# Altium schematic symbol library Reference_Current.SchLib: 12 symbols
Pins are listed as number, name and electrical type; pins without a type are passive.

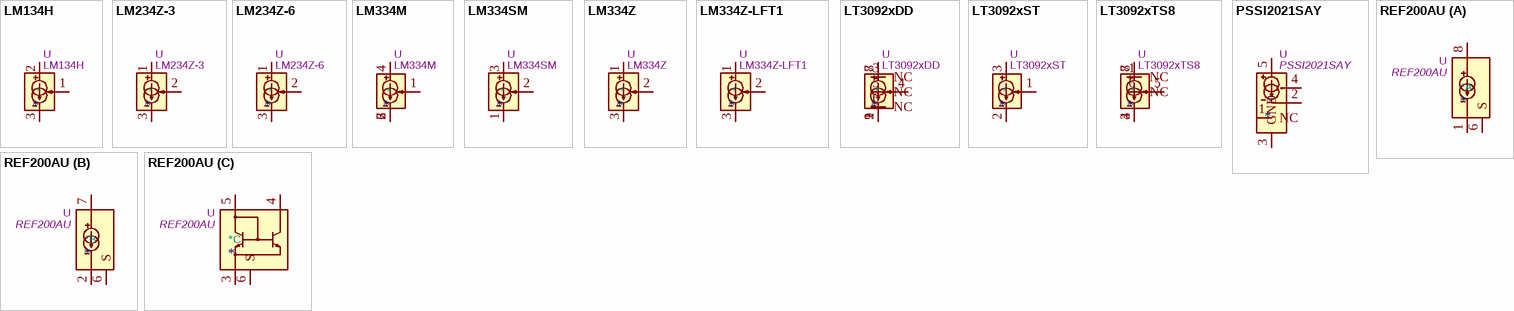
[diagram p0: symbols LM134H to REF200AU]

## LM134H
designator *  value LM134H  Reference: U
1μA to 10mA 3-Terminal Adjustable Current Source, TO-46; ki_keywords: Adjustable Current Source 10mA; ki_fp_filters: TO?46*; Footprint: Package_TO_SOT_THT:TO-46-3; Datasheet: http://www.ti.com/lit/ds/symlink/lm134.pdf; Description_: 1μA to 10mA 3-Terminal Adjustable Current Source, TO-46
pins: 1, 2, 3

## LM234Z-3
designator *  value LM234Z-3  Reference: U
1μA to 10mA 3-Terminal Adjustable Current Source, TO-92; ki_keywords: Adjustable Current Source 10mA; ki_fp_filters: TO*92*Inline*; Footprint: Package_TO_SOT_THT:TO-92_Inline; Datasheet: http://www.ti.com/lit/ds/symlink/lm134.pdf; Description_: 1μA to 10mA 3-Terminal Adjustable Current Source, TO-92
pins: 1, 2, 3

## LM234Z-6
designator *  value LM234Z-6  Reference: U
1μA to 10mA 3-Terminal Adjustable Current Source, TO-92; ki_keywords: Adjustable Current Source 10mA; ki_fp_filters: TO*92*Inline*; Footprint: Package_TO_SOT_THT:TO-92_Inline; Datasheet: http://www.ti.com/lit/ds/symlink/lm134.pdf; Description_: 1μA to 10mA 3-Terminal Adjustable Current Source, TO-92
pins: 1, 2, 3

## LM334M
designator *  value LM334M  Reference: U
1μA to 10mA 3-Terminal Adjustable Current Source, SO-8; ki_keywords: Adjustable Current Source 10mA; ki_fp_filters: SOIC*3.9x4.9m*P1.27mm*; Footprint: Package_SO:SOIC-8_3.9x4.9mm_P1.27mm; Datasheet: http://www.ti.com/lit/ds/symlink/lm134.pdf; Description_: 1μA to 10mA 3-Terminal Adjustable Current Source, SO-8
pins: 1, 2, 3, 4, 6, 7

## LM334SM
designator *  value LM334SM  Reference: U
1μA to 10mA 3-Terminal Adjustable Current Source, SO-8 Alternate; ki_keywords: Adjustable Current Source 10mA; ki_fp_filters: SOIC*3.9x4.9m*P1.27mm*; Footprint: Package_SO:SOIC-8_3.9x4.9mm_P1.27mm; Datasheet: http://www.ti.com/lit/ds/symlink/lm134.pdf; Description_: 1μA to 10mA 3-Terminal Adjustable Current Source, SO-8 Alternate
pins: 1, 2, 3

## LM334Z
designator *  value LM334Z  Reference: U
1μA to 10mA 3-Terminal Adjustable Current Source, TO-92; ki_keywords: Adjustable Current Source 10mA; ki_fp_filters: TO*92*Inline*; Footprint: Package_TO_SOT_THT:TO-92_Inline; Datasheet: http://www.ti.com/lit/ds/symlink/lm134.pdf; Description_: 1μA to 10mA 3-Terminal Adjustable Current Source, TO-92
pins: 1, 2, 3

## LM334Z-LFT1
designator *  value LM334Z-LFT1  Reference: U
1μA to 10mA 3-Terminal Adjustable Current Source, TO-92; ki_keywords: Adjustable Current Source 10mA; ki_fp_filters: TO*92*Inline*; Footprint: Package_TO_SOT_THT:TO-92_Inline; Datasheet: http://www.ti.com/lit/ds/symlink/lm134.pdf; Description_: 1μA to 10mA 3-Terminal Adjustable Current Source, TO-92
pins: 1, 2, 3

## LT3092xDD
designator *  value LT3092xDD  Reference: U
200mA 2-Terminal Programmable Current Source, DFN-8; ki_fp_filters: DFN*1EP*3x3mm*P0.5mm*; Footprint: Package_DFN_QFN:DFN-8-1EP_3x3mm_P0.5mm_EP1.66x2.38mm; Datasheet: https://www.analog.com/media/en/technical-documentation/data-sheets/3092fc.pdf; Description_: 200mA 2-Terminal Programmable Current Source, DFN-8; ki_keywords: current source
pins: 1, 2, 3 NC, 4, 5 NC, 6 NC, 7, 8, 9

## LT3092xST
designator *  value LT3092xST  Reference: U
200mA 2-Terminal Programmable Current Source, SOT-223; ki_fp_filters: SOT*223*TabPin2*; Footprint: Package_TO_SOT_SMD:SOT-223-3_TabPin2; Datasheet: https://www.analog.com/media/en/technical-documentation/data-sheets/3092fc.pdf; Description_: 200mA 2-Terminal Programmable Current Source, SOT-223; ki_keywords: current source
pins: 1, 2, 3

## LT3092xTS8
designator *  value LT3092xTS8  Reference: U
200mA 2-Terminal Programmable Current Source, TSOT-23-8; ki_fp_filters: TSOT?23*; Footprint: Package_TO_SOT_SMD:TSOT-23-8; Datasheet: https://www.analog.com/media/en/technical-documentation/data-sheets/3092fc.pdf; Description_: 200mA 2-Terminal Programmable Current Source, TSOT-23-8; ki_keywords: current source
pins: 1 NC, 2, 3, 4, 5, 6 NC, 7, 8

## PSSI2021SAY
designator *  value PSSI2021SAY  Reference: U
Constant current source, Io 15µA to 50mA, SOT-353; ki_keywords: iref adjustable; ki_fp_filters: SOT?353*; Footprint: Package_TO_SOT_SMD:SOT-353_SC-70-5; Datasheet: https://assets.nexperia.com/documents/data-sheet/PSSI2021SAY.pdf; Description_: Constant current source, Io 15µA to 50mA, SOT-353
pins: 1 NC, 2, 3 GND, 4, 5

## REF200AU
designator *  value REF200AU  Reference: U
2x100μA Current Sources/Sinks with Current Mirror, SO-8; ki_keywords: Current Source/Sink 100μA; ki_fp_filters: SOIC*3.9x4.9mm*P1.27mm*; Footprint: Package_SO:SOIC-8_3.9x4.9mm_P1.27mm; Datasheet: www.ti.com/lit/ds/symlink/ref200.pdf; Description_: 2x100μA Current Sources/Sinks with Current Mirror, SO-8
part A pins: 1, 6 S, 8
part B pins: 2, 6 S, 7
part C pins: 3, 4, 5, 6 S